# EAGLE library part USBLC6-2SC6 (library USBLC6-2SC6)
Check availability <https://pricing.snapeda.com/parts/USBLC6-2SC6/STMicroelectronics/view-part?ref=eda> Check availability <https://pricing.snapeda.com/parts/USBLC6-2SC6/STMicroelectronics/view-part?ref=eda> Check availability <https://pricing.snapeda.com/parts/USBLC6-2SC6/STMicroelectronics/view-part?ref=eda>
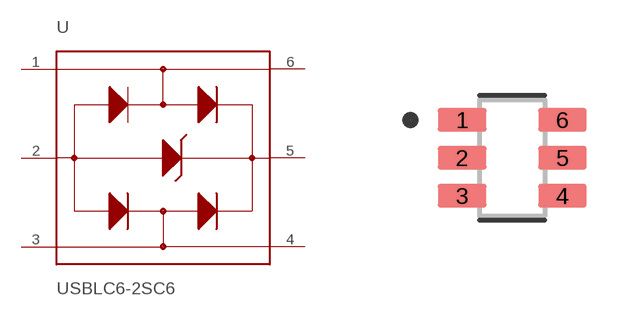
[diagram p0: symbol with the pads of SOT95P280X145-6N; footprint SOT95P280X145-6N]

Designator prefix U

## USBLC6-2SC6 (Availability: In Stock; Description: 17V Clamp 5A (8/20µs) Ipp Tvs Diode Surface Mount SOT-23-6; MF: STMicroelectronics; MP: USBLC6-2SC6; Package: SOT-23-6 STMicroelectronics; Price: None; Purchase-URL: https://pricing.snapeda.com/search/part/USBLC6-2SC6/?ref=eda)  [SOT95P280X145-6N]
1  I/O1_IN
2  GND  pwr
3  I/O2_IN
4  I/O2_OUT
5  VBUS  pwr
6  I/O1_OUT

## Footprint SOT95P280X145-6N (pad centres in mm)
smd 1.21 x 0.59: 1 -1.255,0.95; 2 -1.255,0; 3 -1.255,-0.95; 4 1.255,-0.95; 5 1.255,0; 6 1.255,0.95